# Altium footprint library Con Mod Jack PCB.PcbLib: 213 footprints (part 10 of 14)
Each footprint in its own frame and in the unit in brackets; x right, y up, seen from the top. Pads: shape width x height; smd on the part's side, far side on the other; paste and mask are expansions set on the pad; w line width, h text height; cw(c..) or ccw(c..) is an arc to the next point about the centre after c.
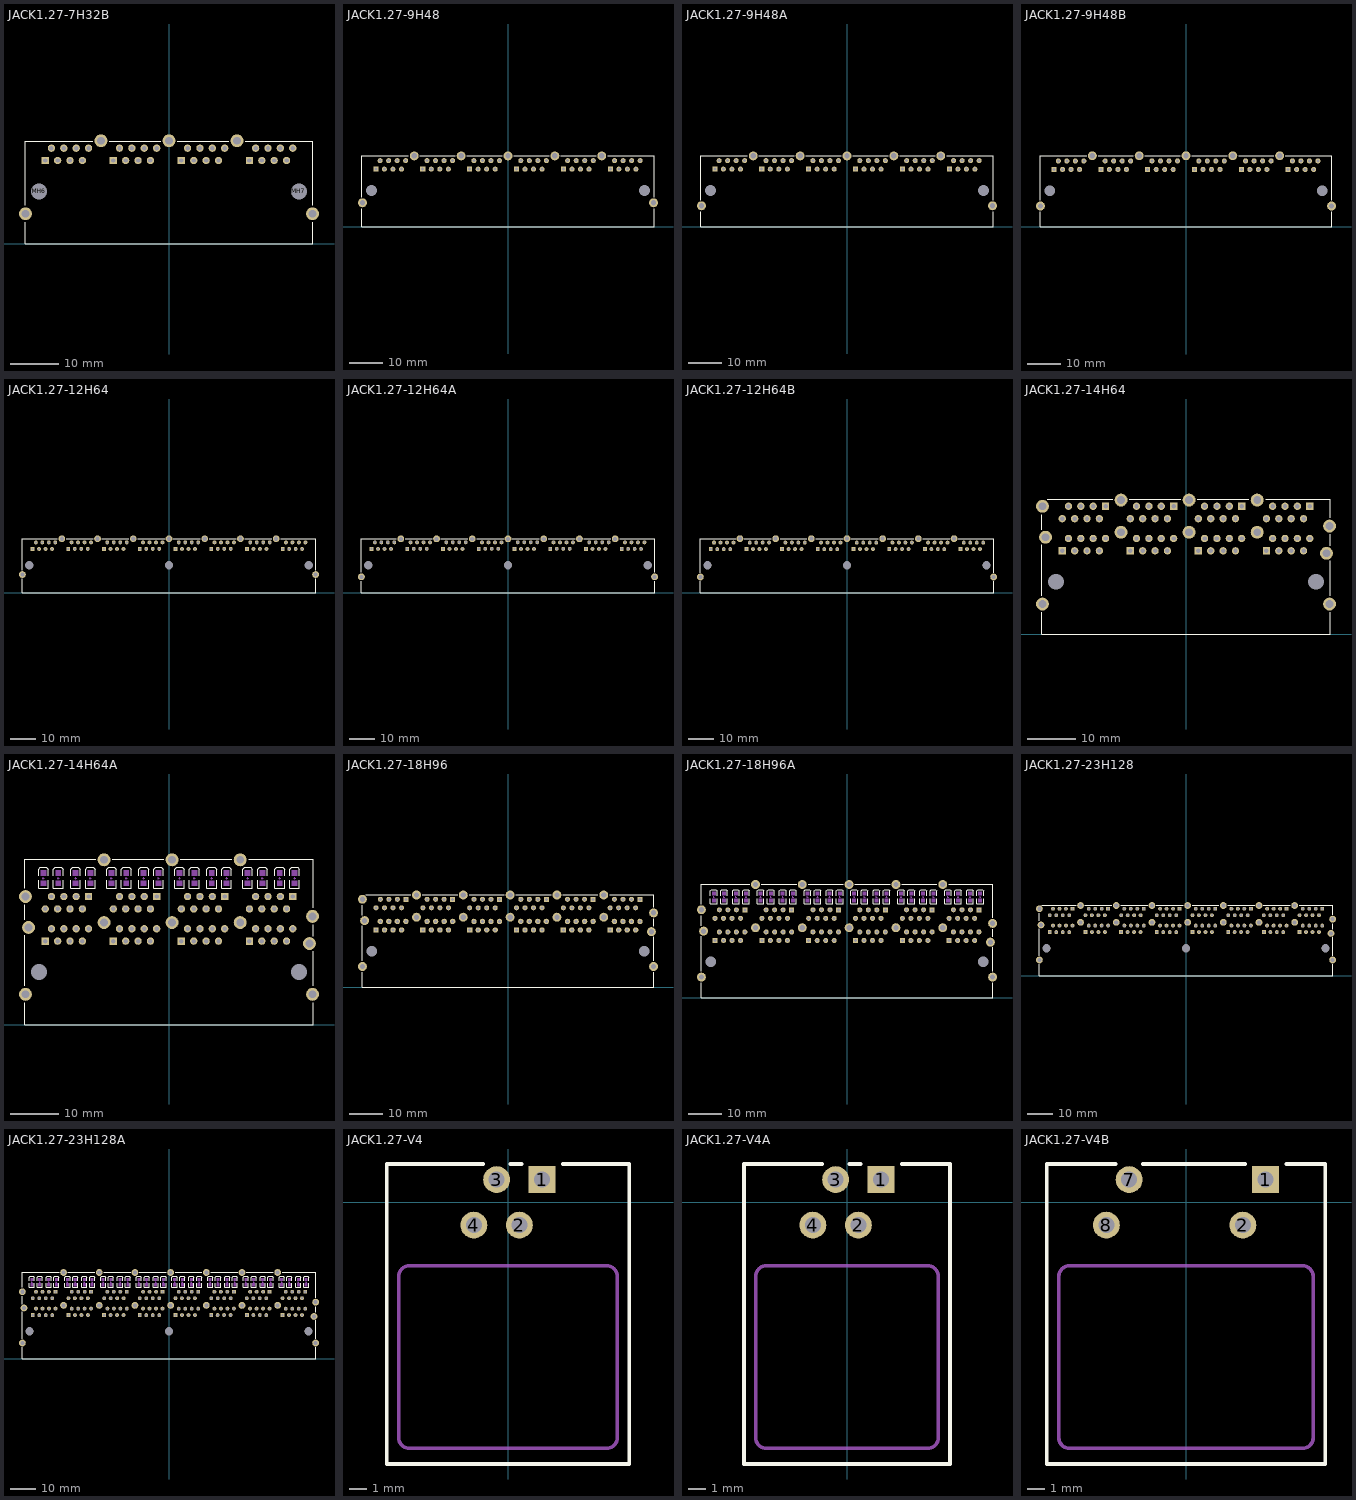
[diagram p9: the footprints below, top view; thin cyan lines are the x and y axes]

## JACK1.27-7H32B [mm] "Connector; PCB Jack, Thru-Hole; 4-Port, 8 Positions, 8 Loaded; Shielded without Lightpipes; Right Angle"
height 13.3
pads (39):
  rect 1.5x1.5 hole 0.9: A1(-25.4,17.07) B1(-11.43,17.07) C1(2.54,17.07) D1(16.51,17.07)
  round 1.5 hole 0.9: A2(-24.13,19.61) A3(-22.86,17.07) A4(-21.59,19.61) A5(-20.32,17.07) A6(-19.05,19.61) A7(-17.78,17.07) A8(-16.51,19.61) B2(-10.16,19.61) B3(-8.89,17.07) B4(-7.62,19.61) B5(-6.35,17.07) B6(-5.08,19.61) B7(-3.81,17.07) B8(-2.54,19.61) C2(3.81,19.61) C3(5.08,17.07) C4(6.35,19.61) C5(7.62,17.07) C6(8.89,19.61) C7(10.16,17.07) C8(11.43,19.61) D2(17.78,19.61) D3(19.05,17.07) D4(20.32,19.61) D5(21.59,17.07) D6(22.86,19.61) D7(24.13,17.07) D8(25.4,19.61)
  round 2.65 hole 1.6: MH1(-29.464,6.148) MH2(-13.97,21.134) MH3(0,21.134) MH4(13.97,21.134) MH5(29.464,6.148)
  round 2.95 hole 3.25: MH6(-26.67,10.72) MH7(26.67,10.72)
Top Overlay:
  lines w0.2: -29.515,4.423 -29.515,0 29.515,0 29.515,4.423 ; -29.515,7.873 -29.515,21.08 -15.694,21.08 ; -12.246,21.08 -1.724,21.08 ; 1.724,21.08 12.246,21.08 ; 15.694,21.08 29.515,21.08 29.515,7.873

## JACK1.27-9H48 [mm] "Connector; PCB Jack, Thru-Hole; 6-Port, 8 Positions, 8 Loaded; Shielded without Lightpipes; Right Angle"
height 13.31
pads (57):
  rect 1.5x1.5 hole 0.9: A1(-39.37,17.09) B1(-25.4,17.09) C1(-11.43,17.09) D1(2.54,17.09) E1(16.51,17.09) F1(30.48,17.09)
  round 1.5 hole 0.9: A2(-38.1,19.63) A3(-36.83,17.09) A4(-35.56,19.63) A5(-34.29,17.09) A6(-33.02,19.63) A7(-31.75,17.09) A8(-30.48,19.63) B2(-24.13,19.63) B3(-22.86,17.09) B4(-21.59,19.63) B5(-20.32,17.09) B6(-19.05,19.63) B7(-17.78,17.09) B8(-16.51,19.63) C2(-10.16,19.63) C3(-8.89,17.09) C4(-7.62,19.63) C5(-6.35,17.09) C6(-5.08,19.63) C7(-3.81,17.09) C8(-2.54,19.63) D2(3.81,19.63) D3(5.08,17.09) D4(6.35,19.63) D5(7.62,17.09) D6(8.89,19.63) D7(10.16,17.09) D8(11.43,19.63) E2(17.78,19.63) E3(19.05,17.09) E4(20.32,19.63) E5(21.59,17.09) E6(22.86,19.63) E7(24.13,17.09) E8(25.4,19.63) F2(31.75,19.63) F3(33.02,17.09) F4(34.29,19.63) F5(35.56,17.09) F6(36.83,19.63) F7(38.1,17.09) F8(39.37,19.63)
  round 2.65 hole 1.6: MH1(-43.358,7.057) MH2(-27.94,21.027) MH3(-13.97,21.027) MH4(0,21.027) MH5(13.97,21.027) MH6(27.94,21.027) MH7(43.358,7.057)
  round 2.95 hole 3.25: MH8(-40.64,10.74) MH9(40.64,10.74)
Top Overlay:
  lines w0.2: -43.5,5.338 -43.5,0 43.5,0 43.5,5.338 ; -43.5,8.776 -43.5,21.02 -29.665,21.02 ; -26.215,21.02 -15.695,21.02 ; -12.245,21.02 -1.725,21.02 ; 1.725,21.02 12.245,21.02 ; 15.695,21.02 26.215,21.02 ; 29.665,21.02 43.5,21.02 43.5,8.776

## JACK1.27-9H48A [mm] "Connector; PCB Jack, Thru-Hole; 6-Port, 8 Positions, 8 Loaded; Shielded without Lightpipes; Right Angle"
height 13.31
pads (57):
  rect 1.5x1.5 hole 0.9: A1(-39.37,17.09) B1(-25.4,17.09) C1(-11.43,17.09) D1(2.54,17.09) E1(16.51,17.09) F1(30.48,17.09)
  round 1.5 hole 0.9: A2(-38.1,19.63) A3(-36.83,17.09) A4(-35.56,19.63) A5(-34.29,17.09) A6(-33.02,19.63) A7(-31.75,17.09) A8(-30.48,19.63) B2(-24.13,19.63) B3(-22.86,17.09) B4(-21.59,19.63) B5(-20.32,17.09) B6(-19.05,19.63) B7(-17.78,17.09) B8(-16.51,19.63) C2(-10.16,19.63) C3(-8.89,17.09) C4(-7.62,19.63) C5(-6.35,17.09) C6(-5.08,19.63) C7(-3.81,17.09) C8(-2.54,19.63) D2(3.81,19.63) D3(5.08,17.09) D4(6.35,19.63) D5(7.62,17.09) D6(8.89,19.63) D7(10.16,17.09) D8(11.43,19.63) E2(17.78,19.63) E3(19.05,17.09) E4(20.32,19.63) E5(21.59,17.09) E6(22.86,19.63) E7(24.13,17.09) E8(25.4,19.63) F2(31.75,19.63) F3(33.02,17.09) F4(34.29,19.63) F5(35.56,17.09) F6(36.83,19.63) F7(38.1,17.09) F8(39.37,19.63)
  round 2.65 hole 1.6: MH1(-43.358,6.168) MH2(-27.94,21.027) MH3(-13.97,21.027) MH4(0,21.027) MH5(13.97,21.027) MH6(27.94,21.027) MH7(43.358,6.168)
  round 2.95 hole 3.25: MH8(-40.64,10.74) MH9(40.64,10.74)
Top Overlay:
  lines w0.2: -43.5,4.449 -43.5,0 43.5,0 43.5,4.449 ; -43.5,7.887 -43.5,21.02 -29.665,21.02 ; -26.215,21.02 -15.695,21.02 ; -12.245,21.02 -1.725,21.02 ; 1.725,21.02 12.245,21.02 ; 15.695,21.02 26.215,21.02 ; 29.665,21.02 43.5,21.02 43.5,7.887

## JACK1.27-9H48B [mm] "Connector; PCB Jack, Thru-Hole; 6-Port, 8 Positions, 8 Loaded; Shielded without Lightpipes; Right Angle"
height 13.3
pads (57):
  rect 1.5x1.5 hole 0.9: A1(-39.37,17.07) B1(-25.4,17.07) C1(-11.43,17.07) D1(2.54,17.07) E1(16.51,17.07) F1(30.48,17.07)
  round 1.5 hole 0.9: A2(-38.1,19.61) A3(-36.83,17.07) A4(-35.56,19.61) A5(-34.29,17.07) A6(-33.02,19.61) A7(-31.75,17.07) A8(-30.48,19.61) B2(-24.13,19.61) B3(-22.86,17.07) B4(-21.59,19.61) B5(-20.32,17.07) B6(-19.05,19.61) B7(-17.78,17.07) B8(-16.51,19.61) C2(-10.16,19.61) C3(-8.89,17.07) C4(-7.62,19.61) C5(-6.35,17.07) C6(-5.08,19.61) C7(-3.81,17.07) C8(-2.54,19.61) D2(3.81,19.61) D3(5.08,17.07) D4(6.35,19.61) D5(7.62,17.07) D6(8.89,19.61) D7(10.16,17.07) D8(11.43,19.61) E2(17.78,19.61) E3(19.05,17.07) E4(20.32,19.61) E5(21.59,17.07) E6(22.86,19.61) E7(24.13,17.07) E8(25.4,19.61) F2(31.75,19.61) F3(33.02,17.07) F4(34.29,19.61) F5(35.56,17.07) F6(36.83,19.61) F7(38.1,17.07) F8(39.37,19.61)
  round 2.65 hole 1.6: MH1(-43.434,6.148) MH2(-27.94,21.134) MH3(-13.97,21.134) MH4(0,21.134) MH5(13.97,21.134) MH6(27.94,21.134) MH7(43.434,6.148)
  round 2.95 hole 3.25: MH8(-40.64,10.72) MH9(40.64,10.72)
Top Overlay:
  lines w0.2: -43.485,4.423 -43.485,0 43.485,0 43.485,4.423 ; -43.485,7.873 -43.485,21.08 -29.664,21.08 ; -26.216,21.08 -15.694,21.08 ; -12.246,21.08 -1.724,21.08 ; 1.724,21.08 12.246,21.08 ; 15.694,21.08 26.216,21.08 ; 29.664,21.08 43.485,21.08 43.485,7.873

## JACK1.27-12H64 [mm] "Connector; PCB Jack, Thru-Hole; 8-Port, 8 Positions, 8 Loaded; Shielded without Lightpipes; Right Angle"
height 13.31
pads (76):
  rect 1.5x1.5 hole 0.9: A1(-53.34,17.09) B1(-39.37,17.09) C1(-25.4,17.09) D1(-11.43,17.09) E1(2.54,17.09) F1(16.51,17.09) G1(30.48,17.09) H1(44.45,17.09)
  round 1.5 hole 0.9: A2(-52.07,19.63) A3(-50.8,17.09) A4(-49.53,19.63) A5(-48.26,17.09) A6(-46.99,19.63) A7(-45.72,17.09) A8(-44.45,19.63) B2(-38.1,19.63) B3(-36.83,17.09) B4(-35.56,19.63) B5(-34.29,17.09) B6(-33.02,19.63) B7(-31.75,17.09) B8(-30.48,19.63) C2(-24.13,19.63) C3(-22.86,17.09) C4(-21.59,19.63) C5(-20.32,17.09) C6(-19.05,19.63) C7(-17.78,17.09) C8(-16.51,19.63) D2(-10.16,19.63) D3(-8.89,17.09) D4(-7.62,19.63) D5(-6.35,17.09) D6(-5.08,19.63) D7(-3.81,17.09) D8(-2.54,19.63) E2(3.81,19.63) E3(5.08,17.09) E4(6.35,19.63) E5(7.62,17.09) E6(8.89,19.63) E7(10.16,17.09) E8(11.43,19.63) F2(17.78,19.63) F3(19.05,17.09) F4(20.32,19.63) F5(21.59,17.09) F6(22.86,19.63) F7(24.13,17.09) F8(25.4,19.63) G2(31.75,19.63) G3(33.02,17.09) G4(34.29,19.63) G5(35.56,17.09) G6(36.83,19.63) G7(38.1,17.09) G8(39.37,19.63) H2(45.72,19.63) H3(46.99,17.09) H4(48.26,19.63) H5(49.53,17.09) H6(50.8,19.63) H7(52.07,17.09) H8(53.34,19.63)
  round 2.65 hole 1.6: MH1(-57.328,7.057) MH2(-41.91,21.052) MH3(-27.94,21.052) MH4(-13.97,21.052) MH5(0,21.052) MH6(13.97,21.052) MH7(27.94,21.052) MH8(41.91,21.052) MH9(57.328,7.057)
  round 2.95 hole 3.25: MH10(-54.61,10.74) MH11(0,10.74) MH12(54.61,10.74)
Top Overlay:
  lines w0.2: -57.47,5.338 -57.47,0 57.47,0 57.47,5.338 ; -57.47,8.776 -57.47,21.02 -43.635,21.02 ; -40.185,21.02 -29.665,21.02 ; -26.215,21.02 -15.695,21.02 ; -12.245,21.02 -1.725,21.02 ; 1.725,21.02 12.245,21.02 ; 15.695,21.02 26.215,21.02 ; 29.665,21.02 40.185,21.02 ; 43.635,21.02 57.47,21.02 57.47,8.776

## JACK1.27-12H64A [mm] "Connector; PCB Jack, Thru-Hole; 8-Port, 8 Positions, 8 Loaded; Shielded without Lightpipes; Right Angle"
height 13.31
pads (76):
  rect 1.5x1.5 hole 0.9: A1(-53.34,17.09) B1(-39.37,17.09) C1(-25.4,17.09) D1(-11.43,17.09) E1(2.54,17.09) F1(16.51,17.09) G1(30.48,17.09) H1(44.45,17.09)
  round 1.5 hole 0.9: A2(-52.07,19.63) A3(-50.8,17.09) A4(-49.53,19.63) A5(-48.26,17.09) A6(-46.99,19.63) A7(-45.72,17.09) A8(-44.45,19.63) B2(-38.1,19.63) B3(-36.83,17.09) B4(-35.56,19.63) B5(-34.29,17.09) B6(-33.02,19.63) B7(-31.75,17.09) B8(-30.48,19.63) C2(-24.13,19.63) C3(-22.86,17.09) C4(-21.59,19.63) C5(-20.32,17.09) C6(-19.05,19.63) C7(-17.78,17.09) C8(-16.51,19.63) D2(-10.16,19.63) D3(-8.89,17.09) D4(-7.62,19.63) D5(-6.35,17.09) D6(-5.08,19.63) D7(-3.81,17.09) D8(-2.54,19.63) E2(3.81,19.63) E3(5.08,17.09) E4(6.35,19.63) E5(7.62,17.09) E6(8.89,19.63) E7(10.16,17.09) E8(11.43,19.63) F2(17.78,19.63) F3(19.05,17.09) F4(20.32,19.63) F5(21.59,17.09) F6(22.86,19.63) F7(24.13,17.09) F8(25.4,19.63) G2(31.75,19.63) G3(33.02,17.09) G4(34.29,19.63) G5(35.56,17.09) G6(36.83,19.63) G7(38.1,17.09) G8(39.37,19.63) H2(45.72,19.63) H3(46.99,17.09) H4(48.26,19.63) H5(49.53,17.09) H6(50.8,19.63) H7(52.07,17.09) H8(53.34,19.63)
  round 2.65 hole 1.6: MH1(-57.328,6.168) MH2(-41.91,21.027) MH3(-27.94,21.027) MH4(-13.97,21.027) MH5(0,21.027) MH6(13.97,21.027) MH7(27.94,21.027) MH8(41.91,21.027) MH9(57.328,6.168)
  round 2.95 hole 3.25: MH10(-54.61,10.74) MH11(0,10.74) MH12(54.61,10.74)
Top Overlay:
  lines w0.2: -57.47,4.449 -57.47,0 57.47,0 57.47,4.449 ; -57.47,7.887 -57.47,21.02 -43.635,21.02 ; -40.185,21.02 -29.665,21.02 ; -26.215,21.02 -15.695,21.02 ; -12.245,21.02 -1.725,21.02 ; 1.725,21.02 12.245,21.02 ; 15.695,21.02 26.215,21.02 ; 29.665,21.02 40.185,21.02 ; 43.635,21.02 57.47,21.02 57.47,7.887

## JACK1.27-12H64B [mm] "Connector; PCB Jack, Thru-Hole; 8-Port, 8 Positions, 8 Loaded; Shielded without Lightpipes; Right Angle"
height 13.3
pads (76):
  rect 1.5x1.5 hole 0.9: A1(-53.34,17.07) B1(-39.37,17.07) C1(-25.4,17.07) D1(-11.43,17.07) E1(2.54,17.07) F1(16.51,17.07) G1(30.48,17.07) H1(44.45,17.07)
  round 1.6 hole 0.9: A2(-52.07,19.61)
  round 1.5 hole 0.9: A3(-50.8,17.07) A4(-49.53,19.61) A5(-48.26,17.07) A6(-46.99,19.61) A7(-45.72,17.07) A8(-44.45,19.61) B2(-38.1,19.61) B3(-36.83,17.07) B4(-35.56,19.61) B5(-34.29,17.07) B6(-33.02,19.61) B7(-31.75,17.07) B8(-30.48,19.61) C2(-24.13,19.61) C3(-22.86,17.07) C4(-21.59,19.61) C5(-20.32,17.07) C6(-19.05,19.61) C7(-17.78,17.07) C8(-16.51,19.61) D2(-10.16,19.61) D3(-8.89,17.07) D4(-7.62,19.61) D5(-6.35,17.07) D6(-5.08,19.61) D7(-3.81,17.07) D8(-2.54,19.61) E2(3.81,19.61) E3(5.08,17.07) E4(6.35,19.61) E5(7.62,17.07) E6(8.89,19.61) E7(10.16,17.07) E8(11.43,19.61) F2(17.78,19.61) F3(19.05,17.07) F4(20.32,19.61) F5(21.59,17.07) F6(22.86,19.61) F7(24.13,17.07) F8(25.4,19.61) G2(31.75,19.61) G3(33.02,17.07) G4(34.29,19.61) G5(35.56,17.07) G6(36.83,19.61) G7(38.1,17.07) G8(39.37,19.61) H2(45.72,19.61) H3(46.99,17.07) H4(48.26,19.61) H5(49.53,17.07) H6(50.8,19.61) H7(52.07,17.07) H8(53.34,19.61)
  round 2.65 hole 1.6: MH1(-57.404,6.148) MH2(-41.91,21.134) MH3(-27.94,21.134) MH4(-13.97,21.134) MH5(0,21.134) MH6(13.97,21.134) MH7(27.94,21.134) MH8(41.91,21.134) MH9(57.404,6.148)
  round 2.95 hole 3.25: MH10(-54.61,10.72) MH11(0,10.72) MH12(54.61,10.72)
Top Overlay:
  lines w0.2: -57.455,4.423 -57.455,0 57.455,0 57.455,4.423 ; -57.455,7.873 -57.455,21.08 -43.634,21.08 ; -40.186,21.08 -29.664,21.08 ; -26.216,21.08 -15.694,21.08 ; -12.246,21.08 -1.724,21.08 ; 1.724,21.08 12.246,21.08 ; 15.694,21.08 26.216,21.08 ; 29.664,21.08 40.186,21.08 ; 43.634,21.08 57.455,21.08 57.455,7.873

## JACK1.27-14H64 [mm] "Connector; PCB Jack, Thru-Hole; 8-Port, 8 Positions, 8 Loaded; Shielded without Lightpipes; Right Angle"
height 25.41
pads (78):
  rect 1.5x1.5 hole 0.9: A1(-16.51,26.294) B1(-2.54,26.294) C1(11.43,26.294) D1(25.4,26.294) E1(-25.4,17.15) F1(-11.43,17.15) G1(2.54,17.15) H1(16.51,17.15)
  round 1.5 hole 0.9: A2(-17.78,23.754) A3(-19.05,26.294) A4(-20.32,23.754) A5(-21.59,26.294) A6(-22.86,23.754) A7(-24.13,26.294) A8(-25.4,23.754) B2(-3.81,23.754) B3(-5.08,26.294) B4(-6.35,23.754) B5(-7.62,26.294) B6(-8.89,23.754) B7(-10.16,26.294) B8(-11.43,23.754) C2(10.16,23.754) C3(8.89,26.294) C4(7.62,23.754) C5(6.35,26.294) C6(5.08,23.754) C7(3.81,26.294) C8(2.54,23.754) D2(24.13,23.754) D3(22.86,26.294) D4(21.59,23.754) D5(20.32,26.294) D6(19.05,23.754) D7(17.78,26.294) D8(16.51,23.754) E2(-24.13,19.69) E3(-22.86,17.15) E4(-21.59,19.69) E5(-20.32,17.15) E6(-19.05,19.69) E7(-17.78,17.15) E8(-16.51,19.69) F2(-10.16,19.69) F3(-8.89,17.15) F4(-7.62,19.69) F5(-6.35,17.15) F6(-5.08,19.69) F7(-3.81,17.15) F8(-2.54,19.69) G2(3.81,19.69) G3(5.08,17.15) G4(6.35,19.69) G5(7.62,17.15) G6(8.89,19.69) G7(10.16,17.15) G8(11.43,19.69) H2(17.78,19.69) H3(19.05,17.15) H4(20.32,19.69) H5(21.59,17.15) H6(22.86,19.69) H7(24.13,17.15) H8(25.4,19.69)
  round 2.65 hole 1.6: MH1(-29.464,26.294) MH2(-13.335,27.564) MH3(0.635,27.564) MH4(14.605,27.564) MH5(29.464,22.23) MH6(-28.829,19.944) MH7(-13.335,20.96) MH8(0.635,20.96) MH9(14.605,20.96) MH10(28.829,16.642) MH11(-29.464,6.228) MH12(29.464,6.228)
  round 2.95 hole 3.25: MH13(-26.67,10.8) MH14(26.67,10.8)
Top Overlay:
  lines w0.2: -29.59,4.508 -29.59,0 29.59,0 29.59,4.508 ; -29.59,7.948 -29.59,18.396 ; -29.59,21.492 -29.59,24.574 ; -28.451,27.69 -15.055,27.69 ; -11.615,27.69 -1.085,27.69 ; 2.355,27.69 12.885,27.69 ; 16.325,27.69 29.59,27.69 29.59,23.95 ; 29.59,7.948 29.59,15.094 ; 29.59,18.19 29.59,20.51

## JACK1.27-14H64A [mm] "Connector; PCB Jack, Thru-Hole; 8-Port, 8 Positions, 8 Loaded; Shielded with Lightpipes; Right Angle"
height 25.41
pads (78):
  rect 1.5x1.5 hole 0.9: A1(-16.51,26.294) B1(-2.54,26.294) C1(11.43,26.294) D1(25.4,26.294) E1(-25.4,17.15) F1(-11.43,17.15) G1(2.54,17.15) H1(16.51,17.15)
  round 1.5 hole 0.9: A2(-17.78,23.754) A3(-19.05,26.294) A4(-20.32,23.754) A5(-21.59,26.294) A6(-22.86,23.754) A7(-24.13,26.294) A8(-25.4,23.754) B2(-3.81,23.754) B3(-5.08,26.294) B4(-6.35,23.754) B5(-7.62,26.294) B6(-8.89,23.754) B7(-10.16,26.294) B8(-11.43,23.754) C2(10.16,23.754) C3(8.89,26.294) C4(7.62,23.754) C5(6.35,26.294) C6(5.08,23.754) C7(3.81,26.294) C8(2.54,23.754) D2(24.13,23.754) D3(22.86,26.294) D4(21.59,23.754) D5(20.32,26.294) D6(19.05,23.754) D7(17.78,26.294) D8(16.51,23.754) E2(-24.13,19.69) E3(-22.86,17.15) E4(-21.59,19.69) E5(-20.32,17.15) E6(-19.05,19.69) E7(-17.78,17.15) E8(-16.51,19.69) F2(-10.16,19.69) F3(-8.89,17.15) F4(-7.62,19.69) F5(-6.35,17.15) F6(-5.08,19.69) F7(-3.81,17.15) F8(-2.54,19.69) G2(3.81,19.69) G3(5.08,17.15) G4(6.35,19.69) G5(7.62,17.15) G6(8.89,19.69) G7(10.16,17.15) G8(11.43,19.69) H2(17.78,19.69) H3(19.05,17.15) H4(20.32,19.69) H5(21.59,17.15) H6(22.86,19.69) H7(24.13,17.15) H8(25.4,19.69)
  round 2.65 hole 1.6: MH1(-29.464,26.294) MH2(-13.335,33.838) MH3(0.635,33.838) MH4(14.605,33.838) MH5(29.464,22.23) MH6(-28.829,19.944) MH7(-13.335,20.96) MH8(0.635,20.96) MH9(14.605,20.96) MH10(28.829,16.642) MH11(-29.464,6.228) MH12(29.464,6.228)
  round 2.95 hole 3.25: MH13(-26.67,10.8) MH14(26.67,10.8)
Top Overlay:
  lines w0.2: -29.59,4.508 -29.59,0 29.59,0 29.59,4.508 ; -29.59,7.948 -29.59,18.396 ; -29.59,21.492 -29.59,24.574 ; -29.59,28.014 -29.59,33.95 -15.055,33.95 ; -26.781,29.637 -26.781,28.037 -24.781,28.037 -24.781,29.637 ; -26.781,30.52 -26.781,31.92 -26.381,32.32 -25.181,32.32 -24.781,31.92 -24.781,30.52 ; -23.733,29.637 -23.733,28.037 -21.733,28.037 -21.733,29.637 ; -23.733,30.52 -23.733,31.92 -23.333,32.32 -22.133,32.32 -21.733,31.92 -21.733,30.52 ; -20.177,29.637 -20.177,28.037 -18.177,28.037 -18.177,29.637 ; -20.177,30.52 -20.177,31.92 -19.777,32.32 -18.577,32.32 -18.177,31.92 -18.177,30.52 ; -17.129,29.637 -17.129,28.037 -15.129,28.037 -15.129,29.637 ; -17.129,30.52 -17.129,31.92 -16.729,32.32 -15.529,32.32 -15.129,31.92 -15.129,30.52 ; -12.811,29.637 -12.811,28.037 -10.811,28.037 -10.811,29.637 ; -12.811,30.52 -12.811,31.92 -12.411,32.32 -11.211,32.32 -10.811,31.92 -10.811,30.52 ; -11.615,33.95 -1.085,33.95 ; -9.763,29.637 -9.763,28.037 -7.763,28.037 -7.763,29.637 ; -9.763,30.52 -9.763,31.92 -9.363,32.32 -8.163,32.32 -7.763,31.92 -7.763,30.52 ; -6.207,29.637 -6.207,28.037 -4.207,28.037 -4.207,29.637 ; -6.207,30.52 -6.207,31.92 -5.807,32.32 -4.607,32.32 -4.207,31.92 -4.207,30.52 ; -3.159,29.637 -3.159,28.037 -1.159,28.037 -1.159,29.637 ; -3.159,30.52 -3.159,31.92 -2.759,32.32 -1.559,32.32 -1.159,31.92 -1.159,30.52 ; 1.159,29.637 1.159,28.037 3.159,28.037 3.159,29.637 ; 1.159,30.52 1.159,31.92 1.559,32.32 2.759,32.32 3.159,31.92 3.159,30.52 ; 2.355,33.95 12.885,33.95 ; 4.207,29.637 4.207,28.037 6.207,28.037 6.207,29.637 ; 4.207,30.52 4.207,31.92 4.607,32.32 5.807,32.32 6.207,31.92 6.207,30.52 ; 7.763,29.637 7.763,28.037 9.763,28.037 9.763,29.637 ; 7.763,30.52 7.763,31.92 8.163,32.32 9.363,32.32 9.763,31.92 9.763,30.52 ; 10.811,29.637 10.811,28.037 12.811,28.037 12.811,29.637 ; 10.811,30.52 10.811,31.92 11.211,32.32 12.411,32.32 12.811,31.92 12.811,30.52 ; 15.129,29.637 15.129,28.037 17.129,28.037 17.129,29.637 ; 15.129,30.52 15.129,31.92 15.529,32.32 16.729,32.32 17.129,31.92 17.129,30.52 ; 16.325,33.95 29.59,33.95 29.59,23.95 ; 18.177,29.637 18.177,28.037 20.177,28.037 20.177,29.637 ; 18.177,30.52 18.177,31.92 18.577,32.32 19.777,32.32 20.177,31.92 20.177,30.52 ; 21.733,29.637 21.733,28.037 23.733,28.037 23.733,29.637 ; 21.733,30.52 21.733,31.92 22.133,32.32 23.333,32.32 23.733,31.92 23.733,30.52 ; 24.781,29.637 24.781,28.037 26.781,28.037 26.781,29.637 ; 24.781,30.52 24.781,31.92 25.181,32.32 26.381,32.32 26.781,31.92 26.781,30.52 ; 29.59,7.948 29.59,15.094 ; 29.59,18.19 29.59,20.51
Mechanical 1:
  rectangle: -26.381,30.52 -25.181,31.72
  rectangle: -26.381,28.437 -25.181,29.637
  rectangle: -23.333,30.52 -22.133,31.72
  rectangle: -23.333,28.437 -22.133,29.637
  rectangle: -19.777,30.52 -18.577,31.72
  rectangle: -19.777,28.437 -18.577,29.637
  rectangle: -16.729,30.52 -15.529,31.72
  rectangle: -16.729,28.437 -15.529,29.637
  rectangle: -12.411,30.52 -11.211,31.72
  rectangle: -12.411,28.437 -11.211,29.637
  rectangle: -9.363,30.52 -8.163,31.72
  rectangle: -9.363,28.437 -8.163,29.637
  rectangle: -5.807,30.52 -4.607,31.72
  rectangle: -5.807,28.437 -4.607,29.637
  rectangle: -2.759,30.52 -1.559,31.72
  rectangle: -2.759,28.437 -1.559,29.637
  rectangle: 1.559,30.52 2.759,31.72
  rectangle: 1.559,28.437 2.759,29.637
  rectangle: 4.607,30.52 5.807,31.72
  rectangle: 4.607,28.437 5.807,29.637
  rectangle: 8.163,30.52 9.363,31.72
  rectangle: 8.163,28.437 9.363,29.637
  rectangle: 11.211,30.52 12.411,31.72
  rectangle: 11.211,28.437 12.411,29.637
  rectangle: 15.529,30.52 16.729,31.72
  rectangle: 15.529,28.437 16.729,29.637
  rectangle: 18.577,30.52 19.777,31.72
  rectangle: 18.577,28.437 19.777,29.637
  rectangle: 22.133,30.52 23.333,31.72
  rectangle: 22.133,28.437 23.333,29.637
  rectangle: 25.181,30.52 26.381,31.72
  rectangle: 25.181,28.437 26.381,29.637
  lines w0.1: -25.981,30.079 -25.781,30.079 ; -25.781,29.879 -25.781,30.079 ; -25.781,30.279 -25.781,30.079 ; -25.581,30.079 -25.781,30.079 ; -22.933,30.079 -22.733,30.079 ; -22.733,29.879 -22.733,30.079 ; -22.733,30.279 -22.733,30.079 ; -22.533,30.079 -22.733,30.079 ; -19.377,30.079 -19.177,30.079 ; -19.177,29.879 -19.177,30.079 ; -19.177,30.279 -19.177,30.079 ; -18.977,30.079 -19.177,30.079 ; -16.329,30.079 -16.129,30.079 ; -16.129,29.879 -16.129,30.079 ; -16.129,30.279 -16.129,30.079 ; -15.929,30.079 -16.129,30.079 ; -12.011,30.079 -11.811,30.079 ; -11.811,29.879 -11.811,30.079 ; -11.811,30.279 -11.811,30.079 ; -11.611,30.079 -11.811,30.079 ; -8.963,30.079 -8.763,30.079 ; -8.763,29.879 -8.763,30.079 ; -8.763,30.279 -8.763,30.079 ; -8.563,30.079 -8.763,30.079 ; -5.407,30.079 -5.207,30.079 ; -5.207,29.879 -5.207,30.079 ; -5.207,30.279 -5.207,30.079 ; -5.007,30.079 -5.207,30.079 ; -2.359,30.079 -2.159,30.079 ; -2.159,29.879 -2.159,30.079 ; -2.159,30.279 -2.159,30.079 ; -1.959,30.079 -2.159,30.079 ; 1.959,30.079 2.159,30.079 ; 2.159,29.879 2.159,30.079 ; 2.159,30.279 2.159,30.079 ; 2.359,30.079 2.159,30.079 ; 5.007,30.079 5.207,30.079 ; 5.207,29.879 5.207,30.079 ; 5.207,30.279 5.207,30.079 ; 5.407,30.079 5.207,30.079 ; 8.563,30.079 8.763,30.079 ; 8.763,29.879 8.763,30.079 ; 8.763,30.279 8.763,30.079 ; 8.963,30.079 8.763,30.079 ; 11.611,30.079 11.811,30.079 ; 11.811,29.879 11.811,30.079 ; 11.811,30.279 11.811,30.079 ; 12.011,30.079 11.811,30.079 ; 15.929,30.079 16.129,30.079 ; 16.129,29.879 16.129,30.079 ; 16.129,30.279 16.129,30.079 ; 16.329,30.079 16.129,30.079 ; 18.977,30.079 19.177,30.079 ; 19.177,29.879 19.177,30.079 ; 19.177,30.279 19.177,30.079 ; 19.377,30.079 19.177,30.079 ; 22.533,30.079 22.733,30.079 ; 22.733,29.879 22.733,30.079 ; 22.733,30.279 22.733,30.079 ; 22.933,30.079 22.733,30.079 ; 25.581,30.079 25.781,30.079 ; 25.781,29.879 25.781,30.079 ; 25.781,30.279 25.781,30.079 ; 25.981,30.079 25.781,30.079

## JACK1.27-18H96 [mm] "Connector; PCB Jack, Thru-Hole; 12-Port, 8 Positions, 8 Loaded; Shielded without Lightpipes; Right Angle"
height 25.41
pads (114):
  rect 1.5x1.5 hole 0.9: A1(-30.48,26.294) B1(-16.51,26.294) C1(-2.54,26.294) D1(11.43,26.294) E1(25.4,26.294) F1(39.37,26.294)
  round 1.5 hole 0.9: A2(-31.75,23.754) A3(-33.02,26.294) A4(-34.29,23.754) A5(-35.56,26.294) A6(-36.83,23.754) A7(-38.1,26.294) A8(-39.37,23.754) B2(-17.78,23.754) B3(-19.05,26.294) B4(-20.32,23.754) B5(-21.59,26.294) B6(-22.86,23.754) B7(-24.13,26.294) B8(-25.4,23.754) C2(-3.81,23.754) C3(-5.08,26.294) C4(-6.35,23.754) C5(-7.62,26.294) C6(-8.89,23.754) C7(-10.16,26.294) C8(-11.43,23.754) D2(10.16,23.754) D3(8.89,26.294) D4(7.62,23.754) D5(6.35,26.294) D6(5.08,23.754) D7(3.81,26.294) D8(2.54,23.754) E2(24.13,23.754) E3(22.86,26.294) E4(21.59,23.754) E5(20.32,26.294) E6(19.05,23.754) E7(17.78,26.294) E8(16.51,23.754) F2(38.1,23.754) F3(36.83,26.294) F4(35.56,23.754) F5(34.29,26.294) F6(33.02,23.754) F7(31.75,26.294) F8(30.48,23.754)
  rect 1.6x1.6 hole 0.9: G1(-39.37,17.15) H1(-25.4,17.15) I1(-11.43,17.15) J1(2.54,17.15) K1(16.51,17.15) L1(30.48,17.15)
  round 1.6 hole 0.9: G2(-38.1,19.69) G3(-36.83,17.15) G4(-35.56,19.69) G5(-34.29,17.15) G6(-33.02,19.69) G7(-31.75,17.15) G8(-30.48,19.69) H2(-24.13,19.69) H3(-22.86,17.15) H4(-21.59,19.69) H5(-20.32,17.15) H6(-19.05,19.69) H7(-17.78,17.15) H8(-16.51,19.69) I2(-10.16,19.69) I3(-8.89,17.15) I4(-7.62,19.69) I5(-6.35,17.15) I6(-5.08,19.69) I7(-3.81,17.15) I8(-2.54,19.69) J2(3.81,19.69) J3(5.08,17.15) J4(6.35,19.69) J5(7.62,17.15) J6(8.89,19.69) J7(10.16,17.15) J8(11.43,19.69) K2(17.78,19.69) K3(19.05,17.15) K4(20.32,19.69) K5(21.59,17.15) K6(22.86,19.69) K7(24.13,17.15) K8(25.4,19.69) L2(31.75,19.69) L3(33.02,17.15) L4(34.29,19.69) L5(35.56,17.15) L6(36.83,19.69) L7(38.1,17.15) L8(39.37,19.69)
  round 2.65 hole 1.6: MH1(-43.434,26.294) MH2(-27.305,27.564) MH3(-13.335,27.564) MH4(0.635,27.564) MH5(14.605,27.564) MH6(28.575,27.564) MH7(43.434,22.23) MH8(-42.799,19.944) MH9(-27.305,20.96) MH10(-13.335,20.96) MH11(0.635,20.96) MH12(14.605,20.96) MH13(28.575,20.96) MH14(42.799,16.642) MH15(-43.434,6.228) MH16(43.434,6.228)
  round 2.95 hole 3.25: MH17(-40.64,10.8) MH18(40.64,10.8)
Top Overlay:
  lines w0.2: -43.56,4.508 -43.56,0 43.56,0 43.56,4.508 ; -43.56,7.948 -43.56,18.396 ; -43.56,21.492 -43.56,24.574 ; -42.421,27.69 -29.025,27.69 ; -25.585,27.69 -15.055,27.69 ; -11.615,27.69 -1.085,27.69 ; 2.355,27.69 12.885,27.69 ; 16.325,27.69 26.855,27.69 ; 30.295,27.69 43.56,27.69 43.56,23.95 ; 43.56,7.948 43.56,15.094 ; 43.56,18.19 43.56,20.51

## JACK1.27-18H96A [mm] "Connector; PCB Jack, Thru-Hole; 12-Port, 8 Positions, 8 Loaded; Shielded with Lightpipes; Right Angle"
height 25.41
pads (114):
  rect 1.5x1.5 hole 0.9: A1(-30.48,26.294) B1(-16.51,26.294) C1(-2.54,26.294) D1(11.43,26.294) E1(25.4,26.294) F1(39.37,26.294) G1(-39.37,17.15) H1(-25.4,17.15) I1(-11.43,17.15) J1(2.54,17.15) K1(16.51,17.15) L1(30.48,17.15)
  round 1.5 hole 0.9: A2(-31.75,23.754) A3(-33.02,26.294) A4(-34.29,23.754) A5(-35.56,26.294) A6(-36.83,23.754) A7(-38.1,26.294) A8(-39.37,23.754) B2(-17.78,23.754) B3(-19.05,26.294) B4(-20.32,23.754) B5(-21.59,26.294) B6(-22.86,23.754) B7(-24.13,26.294) B8(-25.4,23.754) C2(-3.81,23.754) C3(-5.08,26.294) C4(-6.35,23.754) C5(-7.62,26.294) C6(-8.89,23.754) C7(-10.16,26.294) C8(-11.43,23.754) D2(10.16,23.754) D3(8.89,26.294) D4(7.62,23.754) D5(6.35,26.294) D6(5.08,23.754) D7(3.81,26.294) D8(2.54,23.754) E2(24.13,23.754) E3(22.86,26.294) E4(21.59,23.754) E5(20.32,26.294) E6(19.05,23.754) E7(17.78,26.294) E8(16.51,23.754) F2(38.1,23.754) F3(36.83,26.294) F4(35.56,23.754) F5(34.29,26.294) F6(33.02,23.754) F7(31.75,26.294) F8(30.48,23.754) G2(-38.1,19.69) G3(-36.83,17.15) G4(-35.56,19.69) G5(-34.29,17.15) G6(-33.02,19.69) G7(-31.75,17.15) G8(-30.48,19.69) H2(-24.13,19.69) H3(-22.86,17.15) H4(-21.59,19.69) H5(-20.32,17.15) H6(-19.05,19.69) H7(-17.78,17.15) H8(-16.51,19.69) I2(-10.16,19.69) I3(-8.89,17.15) I4(-7.62,19.69) I5(-6.35,17.15) I6(-5.08,19.69) I7(-3.81,17.15) I8(-2.54,19.69) J2(3.81,19.69) J3(5.08,17.15) J4(6.35,19.69) J5(7.62,17.15) J6(8.89,19.69) J7(10.16,17.15) J8(11.43,19.69) K2(17.78,19.69) K3(19.05,17.15) K4(20.32,19.69) K5(21.59,17.15) K6(22.86,19.69) K7(24.13,17.15) K8(25.4,19.69) L2(31.75,19.69) L3(33.02,17.15) L4(34.29,19.69) L5(35.56,17.15) L6(36.83,19.69) L7(38.1,17.15) L8(39.37,19.69)
  round 2.65 hole 1.6: MH1(-43.434,26.294) MH2(-27.305,33.838) MH3(-13.335,33.838) MH4(0.635,33.838) MH5(14.605,33.838) MH6(28.575,33.838) MH7(43.434,22.23) MH8(-42.799,19.944) MH9(-27.305,20.96) MH10(-13.335,20.96) MH11(0.635,20.96) MH12(14.605,20.96) MH13(28.575,20.96) MH14(42.799,16.642) MH15(-43.434,6.228) MH16(43.434,6.228)
  round 2.95 hole 3.25: MH17(-40.64,10.8) MH18(40.64,10.8)
Top Overlay:
  drawing of 207 lines, arcs and shapes, not listed
Mechanical 1:
  rectangle: 39.151,28.437 40.351,29.637
  rectangle: 39.151,30.52 40.351,31.72
  rectangle: 36.103,28.437 37.303,29.637
  rectangle: 36.103,30.52 37.303,31.72
  rectangle: 32.547,28.437 33.747,29.637
  rectangle: 32.547,30.52 33.747,31.72
  rectangle: 29.499,28.437 30.699,29.637
  rectangle: 29.499,30.52 30.699,31.72
  rectangle: 25.181,28.437 26.381,29.637
  rectangle: 25.181,30.52 26.381,31.72
  rectangle: 22.133,28.437 23.333,29.637
  rectangle: 22.133,30.52 23.333,31.72
  rectangle: 18.577,28.437 19.777,29.637
  rectangle: 18.577,30.52 19.777,31.72
  rectangle: 15.529,28.437 16.729,29.637
  rectangle: 15.529,30.52 16.729,31.72
  rectangle: 11.211,28.437 12.411,29.637
  rectangle: 11.211,30.52 12.411,31.72
  rectangle: 8.163,28.437 9.363,29.637
  rectangle: 8.163,30.52 9.363,31.72
  rectangle: 4.607,28.437 5.807,29.637
  rectangle: 4.607,30.52 5.807,31.72
  rectangle: 1.559,28.437 2.759,29.637
  rectangle: 1.559,30.52 2.759,31.72
  rectangle: -2.759,28.437 -1.559,29.637
  rectangle: -2.759,30.52 -1.559,31.72
  rectangle: -5.807,28.437 -4.607,29.637
  rectangle: -5.807,30.52 -4.607,31.72
  rectangle: -9.363,28.437 -8.163,29.637
  rectangle: -9.363,30.52 -8.163,31.72
  rectangle: -12.411,28.437 -11.211,29.637
  rectangle: -12.411,30.52 -11.211,31.72
  rectangle: -16.729,28.437 -15.529,29.637
  rectangle: -16.729,30.52 -15.529,31.72
  rectangle: -19.777,28.437 -18.577,29.637
  rectangle: -19.777,30.52 -18.577,31.72
  rectangle: -23.333,28.437 -22.133,29.637
  rectangle: -23.333,30.52 -22.133,31.72
  rectangle: -26.381,28.437 -25.181,29.637
  rectangle: -26.381,30.52 -25.181,31.72
  rectangle: -30.699,28.437 -29.499,29.637
  rectangle: -30.699,30.52 -29.499,31.72
  rectangle: -33.747,28.437 -32.547,29.637
  rectangle: -33.747,30.52 -32.547,31.72
  rectangle: -37.303,28.437 -36.103,29.637
  rectangle: -37.303,30.52 -36.103,31.72
  rectangle: -40.351,28.437 -39.151,29.637
  rectangle: -40.351,30.52 -39.151,31.72
  lines w0.1: -39.951,30.079 -39.751,30.079 ; -39.751,29.879 -39.751,30.079 ; -39.751,30.279 -39.751,30.079 ; -39.551,30.079 -39.751,30.079 ; -36.903,30.079 -36.703,30.079 ; -36.703,29.879 -36.703,30.079 ; -36.703,30.279 -36.703,30.079 ; -36.503,30.079 -36.703,30.079 ; -33.347,30.079 -33.147,30.079 ; -33.147,29.879 -33.147,30.079 ; -33.147,30.279 -33.147,30.079 ; -32.947,30.079 -33.147,30.079 ; -30.299,30.079 -30.099,30.079 ; -30.099,29.879 -30.099,30.079 ; -30.099,30.279 -30.099,30.079 ; -29.899,30.079 -30.099,30.079 ; -25.981,30.079 -25.781,30.079 ; -25.781,29.879 -25.781,30.079 ; -25.781,30.279 -25.781,30.079 ; -25.581,30.079 -25.781,30.079 ; -22.933,30.079 -22.733,30.079 ; -22.733,29.879 -22.733,30.079 ; -22.733,30.279 -22.733,30.079 ; -22.533,30.079 -22.733,30.079 ; -19.377,30.079 -19.177,30.079 ; -19.177,29.879 -19.177,30.079 ; -19.177,30.279 -19.177,30.079 ; -18.977,30.079 -19.177,30.079 ; -16.329,30.079 -16.129,30.079 ; -16.129,29.879 -16.129,30.079 ; -16.129,30.279 -16.129,30.079 ; -15.929,30.079 -16.129,30.079 ; -12.011,30.079 -11.811,30.079 ; -11.811,29.879 -11.811,30.079 ; -11.811,30.279 -11.811,30.079 ; -11.611,30.079 -11.811,30.079 ; -8.963,30.079 -8.763,30.079 ; -8.763,29.879 -8.763,30.079 ; -8.763,30.279 -8.763,30.079 ; -8.563,30.079 -8.763,30.079 ; -5.407,30.079 -5.207,30.079 ; -5.207,29.879 -5.207,30.079 ; -5.207,30.279 -5.207,30.079 ; -5.007,30.079 -5.207,30.079 ; -2.359,30.079 -2.159,30.079 ; -2.159,29.879 -2.159,30.079 ; -2.159,30.279 -2.159,30.079 ; -1.959,30.079 -2.159,30.079 ; 1.959,30.079 2.159,30.079 ; 2.159,29.879 2.159,30.079 ; 2.159,30.279 2.159,30.079 ; 2.359,30.079 2.159,30.079 ; 5.007,30.079 5.207,30.079 ; 5.207,29.879 5.207,30.079 ; 5.207,30.279 5.207,30.079 ; 5.407,30.079 5.207,30.079 ; 8.563,30.079 8.763,30.079 ; 8.763,29.879 8.763,30.079 ; 8.763,30.279 8.763,30.079 ; 8.963,30.079 8.763,30.079 ; 11.611,30.079 11.811,30.079 ; 11.811,29.879 11.811,30.079 ; 11.811,30.279 11.811,30.079 ; 12.011,30.079 11.811,30.079 ; 15.929,30.079 16.129,30.079 ; 16.129,29.879 16.129,30.079 ; 16.129,30.279 16.129,30.079 ; 16.329,30.079 16.129,30.079 ; 18.977,30.079 19.177,30.079 ; 19.177,29.879 19.177,30.079 ; 19.177,30.279 19.177,30.079 ; 19.377,30.079 19.177,30.079 ; 22.533,30.079 22.733,30.079 ; 22.733,29.879 22.733,30.079 ; 22.733,30.279 22.733,30.079 ; 22.933,30.079 22.733,30.079 ; 25.581,30.079 25.781,30.079 ; 25.781,29.879 25.781,30.079 ; 25.781,30.279 25.781,30.079 ; 25.981,30.079 25.781,30.079 ; 29.899,30.079 30.099,30.079 ; 30.099,29.879 30.099,30.079 ; 30.099,30.279 30.099,30.079 ; 30.299,30.079 30.099,30.079 ; 32.947,30.079 33.147,30.079 ; 33.147,29.879 33.147,30.079 ; 33.147,30.279 33.147,30.079 ; 33.347,30.079 33.147,30.079 ; 36.503,30.079 36.703,30.079 ; 36.703,29.879 36.703,30.079 ; 36.703,30.279 36.703,30.079 ; 36.903,30.079 36.703,30.079 ; 39.551,30.079 39.751,30.079 ; 39.751,29.879 39.751,30.079 ; 39.751,30.279 39.751,30.079 ; 39.951,30.079 39.751,30.079

## JACK1.27-23H128 [mm] "Connector; PCB Jack, Thru-Hole; 16-Port, 8 Positions, 8 Loaded; Shielded without Lightpipes; Right Angle"
height 25.41
pads (151):
  rect 1.5x1.5 hole 0.9: A1(-44.45,26.294) B1(-30.48,26.294) C1(-16.51,26.294) D1(-2.54,26.294) E1(11.43,26.294) F1(25.4,26.294) G1(39.37,26.294) H1(53.34,26.294) I1(-53.34,17.15) J1(-39.37,17.15) K1(-25.4,17.15) L1(-11.43,17.15) M1(2.54,17.15) N1(16.51,17.15) O1(30.48,17.15) P1(44.45,17.15)
  round 1.5 hole 0.9: A2(-45.72,23.754) A3(-46.99,26.294) A4(-48.26,23.754) A5(-49.53,26.294) A6(-50.8,23.754) A7(-52.07,26.294) A8(-53.34,23.754) B2(-31.75,23.754) B3(-33.02,26.294) B4(-34.29,23.754) B5(-35.56,26.294) B6(-36.83,23.754) B7(-38.1,26.294) B8(-39.37,23.754) C2(-17.78,23.754) C3(-19.05,26.294) C4(-20.32,23.754) C5(-21.59,26.294) C6(-22.86,23.754) C7(-24.13,26.294) C8(-25.4,23.754) D2(-3.81,23.754) D3(-5.08,26.294) D4(-6.35,23.754) D5(-7.62,26.294) D6(-8.89,23.754) D7(-10.16,26.294) D8(-11.43,23.754) E2(10.16,23.754) E3(8.89,26.294) E4(7.62,23.754) E5(6.35,26.294) E6(5.08,23.754) E7(3.81,26.294) E8(2.54,23.754) F2(24.13,23.754) F3(22.86,26.294) F4(21.59,23.754) F5(20.32,26.294) F6(19.05,23.754) F7(17.78,26.294) F8(16.51,23.754) G2(38.1,23.754) G3(36.83,26.294) G4(35.56,23.754) G5(34.29,26.294) G6(33.02,23.754) G7(31.75,26.294) G8(30.48,23.754) H2(52.07,23.754) H3(50.8,26.294) H4(49.53,23.754) H5(48.26,26.294) H6(46.99,23.754) H7(45.72,26.294) H8(44.45,23.754) I2(-52.07,19.69) I3(-50.8,17.15) I4(-49.53,19.69) I5(-48.26,17.15) I6(-46.99,19.69) I7(-45.72,17.15) I8(-44.45,19.69) J2(-38.1,19.69) J3(-36.83,17.15) J4(-35.56,19.69) J5(-34.29,17.15) J6(-33.02,19.69) J7(-31.75,17.15) J8(-30.48,19.69) K2(-24.13,19.69) K3(-22.86,17.15) K4(-21.59,19.69) K5(-20.32,17.15) K6(-19.05,19.69) K7(-17.78,17.15) K8(-16.51,19.69) L2(-10.16,19.69) L3(-8.89,17.15) L4(-7.62,19.69) L5(-6.35,17.15) L6(-5.08,19.69) L7(-3.81,17.15) L8(-2.54,19.69) M2(3.81,19.69) M3(5.08,17.15) M4(6.35,19.69) M5(7.62,17.15) M6(8.89,19.69) M7(10.16,17.15) M8(11.43,19.69) N2(17.78,19.69) N3(19.05,17.15) N4(20.32,19.69) N5(21.59,17.15) N6(22.86,19.69) N7(24.13,17.15) N8(25.4,19.69) O2(31.75,19.69) O3(33.02,17.15) O4(34.29,19.69) O5(35.56,17.15) O6(36.83,19.69) O7(38.1,17.15) O8(39.37,19.69) P2(45.72,19.69) P3(46.99,17.15) P4(48.26,19.69) P5(49.53,17.15) P6(50.8,19.69) P7(52.07,17.15) P8(53.34,19.69)
  round 2.65 hole 1.6: MH1(-57.404,26.294) MH2(-41.275,27.564) MH3(-27.305,27.564) MH4(-13.335,27.564) MH5(0.635,27.564) MH6(14.605,27.564) MH7(28.575,27.564) MH8(42.545,27.564) MH9(57.404,22.23) MH10(-56.769,19.944) MH11(-41.275,20.96) MH12(-27.305,20.96) MH13(-13.335,20.96) MH14(0.635,20.96) MH15(14.605,20.96) MH16(28.575,20.96) MH17(42.545,20.96) MH18(56.769,16.642) MH19(-57.404,6.228) MH20(57.404,6.228)
  round 2.95 hole 3.25: MH21(-54.61,10.8) MH22(0,10.8) MH23(54.61,10.8)
Top Overlay:
  lines w0.2: -57.53,4.508 -57.53,0 57.53,0 57.53,4.508 ; -57.53,7.948 -57.53,18.396 ; -57.53,21.492 -57.53,24.574 ; -56.391,27.69 -42.995,27.69 ; -39.555,27.69 -29.025,27.69 ; -25.585,27.69 -15.055,27.69 ; -11.615,27.69 -1.085,27.69 ; 2.355,27.69 12.885,27.69 ; 16.325,27.69 26.855,27.69 ; 30.295,27.69 40.825,27.69 ; 44.265,27.69 57.53,27.69 57.53,23.95 ; 57.53,7.948 57.53,15.094 ; 57.53,18.19 57.53,20.51

## JACK1.27-23H128A [mm] "Connector; PCB Jack, Thru-Hole; 16-Port, 8 Positions, 8 Loaded; Shielded with Lightpipes; Right Angle"
height 25.41
pads (151):
  rect 1.5x1.5 hole 0.9: A1(-44.45,26.294) B1(-30.48,26.294) C1(-16.51,26.294) D1(-2.54,26.294) E1(11.43,26.294) F1(25.4,26.294) G1(39.37,26.294) H1(53.34,26.294) I1(-53.34,17.15) J1(-39.37,17.15) K1(-25.4,17.15) L1(-11.43,17.15) M1(2.54,17.15) N1(16.51,17.15) O1(30.48,17.15) P1(44.45,17.15)
  round 1.5 hole 0.9: A2(-45.72,23.754) A3(-46.99,26.294) A4(-48.26,23.754) A5(-49.53,26.294) A6(-50.8,23.754) A7(-52.07,26.294) A8(-53.34,23.754) B2(-31.75,23.754) B3(-33.02,26.294) B4(-34.29,23.754) B5(-35.56,26.294) B6(-36.83,23.754) B7(-38.1,26.294) B8(-39.37,23.754) C2(-17.78,23.754) C3(-19.05,26.294) C4(-20.32,23.754) C5(-21.59,26.294) C6(-22.86,23.754) C7(-24.13,26.294) C8(-25.4,23.754) D2(-3.81,23.754) D3(-5.08,26.294) D4(-6.35,23.754) D5(-7.62,26.294) D6(-8.89,23.754) D7(-10.16,26.294) D8(-11.43,23.754) E2(10.16,23.754) E3(8.89,26.294) E4(7.62,23.754) E5(6.35,26.294) E6(5.08,23.754) E7(3.81,26.294) E8(2.54,23.754) F2(24.13,23.754) F3(22.86,26.294) F4(21.59,23.754) F5(20.32,26.294) F6(19.05,23.754) F7(17.78,26.294) F8(16.51,23.754) G2(38.1,23.754) G3(36.83,26.294) G4(35.56,23.754) G5(34.29,26.294) G6(33.02,23.754) G7(31.75,26.294) G8(30.48,23.754) H2(52.07,23.754) H3(50.8,26.294) H4(49.53,23.754) H5(48.26,26.294) H6(46.99,23.754) H7(45.72,26.294) H8(44.45,23.754) I2(-52.07,19.69) I3(-50.8,17.15) I4(-49.53,19.69) I5(-48.26,17.15) I6(-46.99,19.69) I7(-45.72,17.15) I8(-44.45,19.69) J2(-38.1,19.69) J3(-36.83,17.15) J4(-35.56,19.69) J5(-34.29,17.15) J6(-33.02,19.69) J7(-31.75,17.15) J8(-30.48,19.69) K2(-24.13,19.69) K3(-22.86,17.15) K4(-21.59,19.69) K5(-20.32,17.15) K6(-19.05,19.69) K7(-17.78,17.15) K8(-16.51,19.69) L2(-10.16,19.69) L3(-8.89,17.15) L4(-7.62,19.69) L5(-6.35,17.15) L6(-5.08,19.69) L7(-3.81,17.15) L8(-2.54,19.69) M2(3.81,19.69) M3(5.08,17.15) M4(6.35,19.69) M5(7.62,17.15) M6(8.89,19.69) M7(10.16,17.15) M8(11.43,19.69) N2(17.78,19.69) N3(19.05,17.15) N4(20.32,19.69) N5(21.59,17.15) N6(22.86,19.69) N7(24.13,17.15) N8(25.4,19.69) O2(31.75,19.69) O3(33.02,17.15) O4(34.29,19.69) O5(35.56,17.15) O6(36.83,19.69) O7(38.1,17.15) O8(39.37,19.69) P2(45.72,19.69) P3(46.99,17.15) P4(48.26,19.69) P5(49.53,17.15) P6(50.8,19.69) P7(52.07,17.15) P8(53.34,19.69)
  round 2.65 hole 1.6: MH1(-57.404,26.294) MH2(-41.275,33.838) MH3(-27.305,33.838) MH4(-13.335,33.838) MH5(0.635,33.838) MH6(14.605,33.838) MH7(28.575,33.838) MH8(42.545,33.838) MH9(57.404,22.23) MH10(-56.769,19.944) MH11(-41.275,20.96) MH12(-27.305,20.96) MH13(-13.335,20.96) MH14(0.635,20.96) MH15(14.605,20.96) MH16(28.575,20.96) MH17(42.545,20.96) MH18(56.769,16.642) MH19(-57.404,6.228) MH20(57.404,6.228)
  round 2.95 hole 3.25: MH21(-54.61,10.8) MH22(0,10.8) MH23(54.61,10.8)
Top Overlay:
  drawing of 273 lines, arcs and shapes, not listed
Mechanical 1:
  drawing of 192 lines, arcs and shapes, not listed

## JACK1.27-V4 [mm] "Connector; PCB Jack, Thru-Hole; 1-Port, 6 Positions, 4 Loaded; Unshielded without Lightpipes; Bottom"
height 12.71
pads (4):
  rect 1.5x1.5 hole 0.9: 1(1.905,1.27)
  round 1.5 hole 0.9: 2(0.635,-1.27) 3(-0.635,1.27) 4(-1.905,-1.27)
Top Overlay:
  lines w0.2: -1.387,2.14 -6.775,2.14 -6.775,-14.61 6.775,-14.61 6.775,2.14 3.055,2.14 ; 0.117,2.14 0.755,2.14
Mechanical 1:
  lines w0.2: -6.1,-13.14 ccw(c-5.5,-13.14) -5.5,-13.74 5.5,-13.74 ccw(c5.5,-13.14) 6.1,-13.14 6.1,-4.14 ccw(c5.5,-4.14) 5.5,-3.54 -5.5,-3.54 ccw(c-5.5,-4.14) -6.1,-4.14 -6.1,-13.14
  text "Assign" at -5,-6.14 h1.5
  text "Keepout" at -5,-8.14 h1.5
  text "Area to" at -5,-10.14 h1.5
  text "Cut-out" at -5,-12.14 h1.5

## JACK1.27-V4A [mm] "Connector; PCB Jack, Thru-Hole; 1-Port, 4 Positions, 4 Loaded; Unshielded without Lightpipes; Bottom"
height 12.71
pads (4):
  rect 1.5x1.5 hole 0.9: 1(1.905,1.27)
  round 1.5 hole 0.9: 2(0.635,-1.27) 3(-0.635,1.27) 4(-1.905,-1.27)
Top Overlay:
  lines w0.2: -1.387,2.14 -5.75,2.14 -5.75,-14.61 5.75,-14.61 5.75,2.14 3.055,2.14 ; 0.117,2.14 0.755,2.14
Mechanical 1:
  lines w0.2: -5.1,-13.14 ccw(c-4.5,-13.14) -4.5,-13.74 4.5,-13.74 ccw(c4.5,-13.14) 5.1,-13.14 5.1,-4.14 ccw(c4.5,-4.14) 4.5,-3.54 -4.5,-3.54 ccw(c-4.5,-4.14) -5.1,-4.14 -5.1,-13.14
  text "Assign" at -4.5,-6.14 h1.4
  text "Keepout" at -4.5,-8.14 h1.4
  text "Area to" at -4.5,-10.14 h1.4
  text "Cut-out" at -4.5,-12.14 h1.4

## JACK1.27-V4B [mm] "Connector; PCB Jack, Thru-Hole; 1-Port, 8 Positions, 4 Loaded; Unshielded without Lightpipes; Bottom"
height 12.71
pads (4):
  rect 1.5x1.5 hole 0.9: 1(4.445,1.27)
  round 1.5 hole 0.9: 2(3.175,-1.27) 7(-3.175,1.27) 8(-4.445,-1.27)
Top Overlay:
  lines w0.2: -3.927,2.14 -7.775,2.14 -7.775,-14.61 7.775,-14.61 7.775,2.14 5.595,2.14 ; -2.423,2.14 3.295,2.14
Mechanical 1:
  lines w0.2: -7.1,-13.14 ccw(c-6.5,-13.14) -6.5,-13.74 6.5,-13.74 ccw(c6.5,-13.14) 7.1,-13.14 7.1,-4.14 ccw(c6.5,-4.14) 6.5,-3.54 -6.5,-3.54 ccw(c-6.5,-4.14) -7.1,-4.14 -7.1,-13.14
  text "Assign" at -5,-6.14 h1.5
  text "Keepout" at -5,-8.14 h1.5
  text "Area to" at -5,-10.14 h1.5
  text "Cut-out" at -5,-12.14 h1.5